# Altium schematic symbol library Switch Panel.SchLib: 2 symbols
Pins are listed as number, name and electrical type; pins without a type are passive.

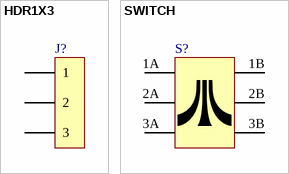
[diagram p0: symbols HDR1X3 to SWITCH]

## HDR1X3
designator J?  (value not drawn)
1X3 Header
footprint HDR1X3 (1X3 Header (0.100" Spacing))
pins: 1, 2, 3

## SWITCH
designator S?  (value not drawn)
DPDT Switch
footprint SWITCH (Universal Switch Footprint)
pins: 1A, 1B, 2A, 2B, 3A, 3B